# EAGLE library part PEM1300 (library pem1300)
Power Over Ethernet PD Module
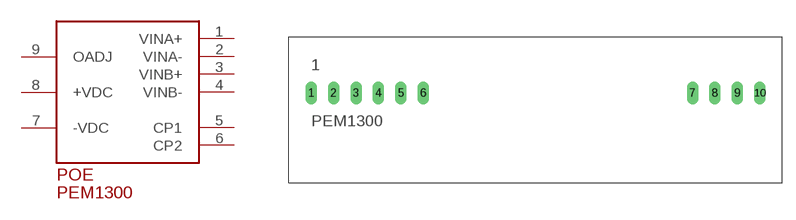
[diagram p0: symbol with the pads of SIL; footprint SIL]

Designator prefix POE

## PEM1300 (MPN: PEM1303; OC_FARNELL: 1902523)  [SIL]
1  VINA+  in
2  VINA-  in
3  VINB+  in
4  VINB-  in
5  CP1
6  CP2
7  -VDC  pwr
8  +VDC  pwr
9  OADJ

## Footprint SIL (pad centres in mm)
drill 0.8 long: 1 -25.4,0; 2 -22.86,0; 3 -20.32,0; 4 -17.78,0; 5 -15.24,0; 6 -12.7,0; 7 17.78,0; 8 20.32,0; 9 22.86,0; 10 25.4,0